# Altium footprint library AMS1117-3.3.PcbLib: 1 footprints
Each footprint in its own frame and in the unit in brackets; x right, y up, seen from the top. Pads: shape width x height; smd on the part's side, far side on the other; paste and mask are expansions set on the pad; w line width, h text height; cw(c..) or ccw(c..) is an arc to the next point about the centre after c.
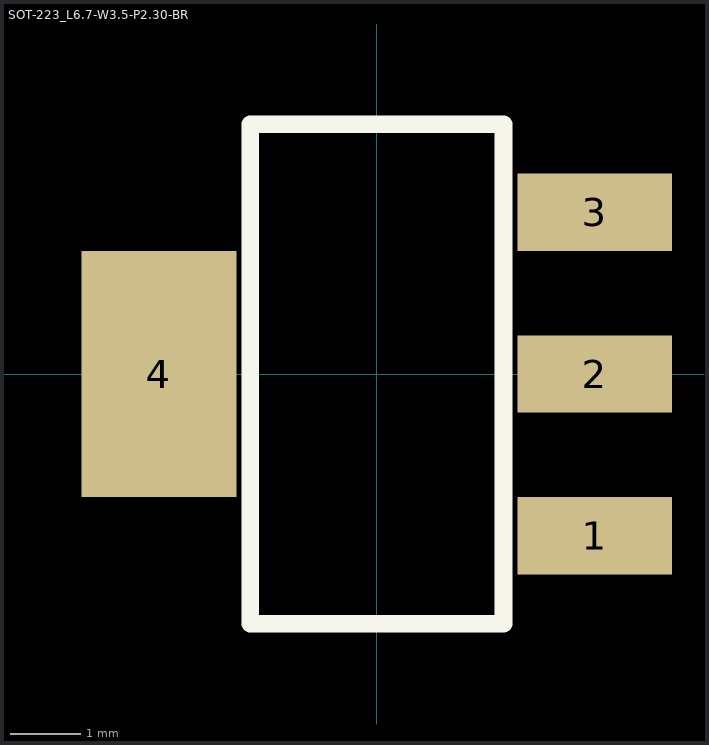
[diagram p0: the footprint, top view; thin cyan lines are the x and y axes]

## SOT-223_L6.7-W3.5-P2.30-BR [mm]
pads (4):
  rect 2.2x1.1 smd: 1(3.099,-2.3) 2(3.099,0) 3(3.099,2.3)
  rect 2.2x3.5 smd: 4(-3.099,0)
Top Overlay:
  lines w0.254: -1.8,-3.55 -1.8,3.55 1.8,3.55 1.8,-3.55 -1.8,-3.55